# EAGLE library part 750030441 (library Wurth Electronics Midcom Inc V1-0)
Package Style: Non-Standard EFD25 20W THT Mounting: THT Pins: 10 pins Bobbin: 070-2710 Windings Primary: 16 - 40VDC, 100k - 250kHz Secondary: 5.0VDC, 1.333ADC Secondary: 15.0VDC, 445mADC Secondary: 15.0VDC, 445mADC Best pinouts for production vary per application. Please contact Wurth Electronics Midcom, Inc. for assistance with your custom design. Datasheet: 750030441 <http://www.we-online.com/web/en/index.php/show/media/06_passive_components_-_custom_magnetics/pdf_doc_files/spec_sheets/30000/30441.pdf> Website: Wurth Electronics Midcom <http://www.we-online.com/midcom> Contact us Wurth Electronics Midcom, Inc. 121 Airport Dr. Watertown, SD 57201 Phone: (605) 886-4385 Fax: (605) 886-4486 E-Mail: midcom@we-online.com
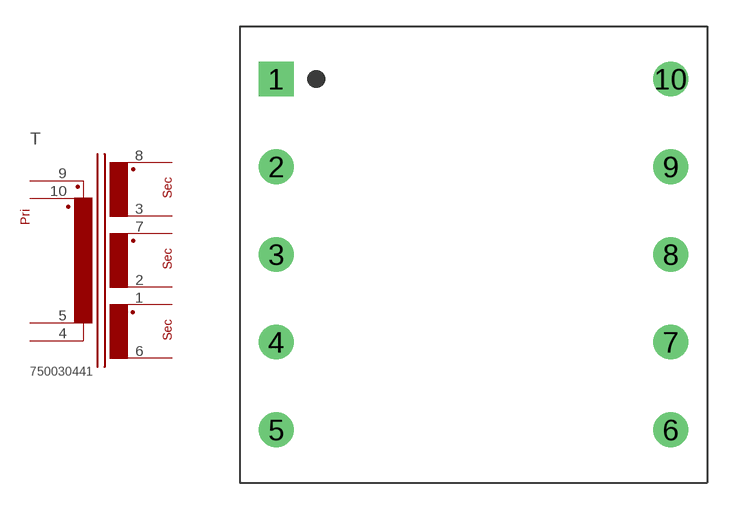
[diagram p24: symbol with the pads of 99NONSTANDARD_EFD25_THT_10PIN; footprint 99NONSTANDARD_EFD25_THT_10PIN]

Designator prefix T

## 750030441  [99NONSTANDARD_EFD25_THT_10PIN]
1  9  pas
2  8  pas
3  6  pas
4  2  pas
5  4  pas
6  10  pas
7  7  pas
8  5  pas
9  1  pas
10  3  pas

## Footprint 99NONSTANDARD_EFD25_THT_10PIN (pad centres in mm)
Package Style: NON STANDARD EFD25 Mounting: THT Pins: 10
drill 1.321 square: 1 -11.252,10.008
drill 1.321 round: 2 -11.252,5.004; 3 -11.252,0; 4 -11.252,-5.004; 5 -11.252,-10.008; 6 11.252,-10.008; 7 11.252,-5.004; 8 11.252,0; 9 11.252,5.004; 10 11.252,10.008